# EAGLE library part XR-2943Q (library exar)
Fax/Data MICROCONTROLLER
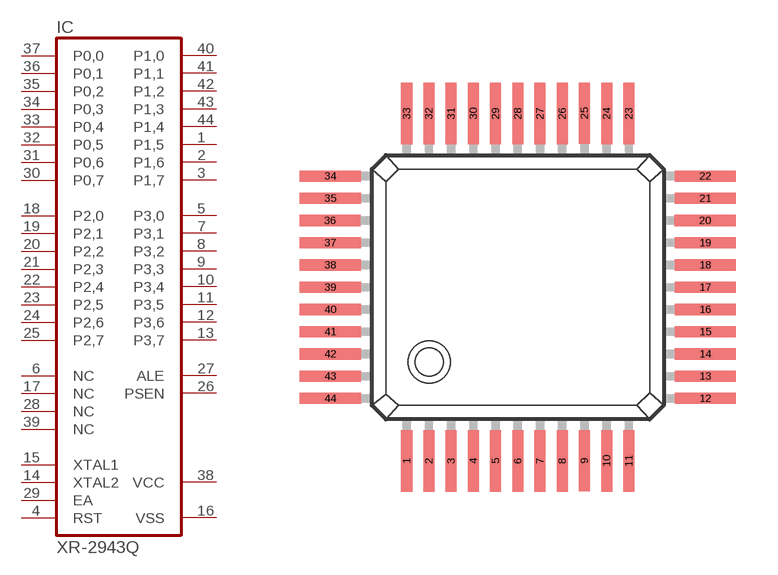
[diagram p87: symbol with the pads of QFP-44; footprint QFP-44]

Designator prefix IC

## XR-2943Q (OC_FARNELL: unknown; OC_NEWARK: unknown)  [QFP-44]
1  P1,5
2  P1,6
3  P1,7
4  RST  in
5  P3,0
6  NC  nc
7  P3,1
8  P3,2
9  P3,3
10  P3,4
11  P3,5
12  P3,6
13  P3,7
14  XTAL2  in
15  XTAL1  in
16  VSS  pwr
17  NC  nc
18  P2,0
19  P2,1
20  P2,2
21  P2,3
22  P2,4
23  P2,5
24  P2,6
25  P2,7
26  PSEN  out
27  ALE  out
28  NC  nc
29  EA  in
30  P0,7
31  P0,6
32  P0,5
33  P0,4
34  P0,3
35  P0,2
36  P0,1
37  P0,0
38  VCC  pwr
39  NC  nc
40  P1,0
41  P1,1
42  P1,2
43  P1,3
44  P1,4

## Footprint QFP-44 (pad centres in mm)
Quad Flat Package
smd 0.4 x 2.2: 1 -4,-6.25; 2 -3.2,-6.25; 3 -2.4,-6.25; 4 -1.6,-6.25; 5 -0.8,-6.25; 6 0,-6.25; 7 0.8,-6.25; 8 1.6,-6.25; 9 2.4,-6.24; 10 3.2,-6.25; 11 4,-6.25; 23 4,6.25; 24 3.2,6.25; 25 2.4,6.26; 26 1.6,6.25; 27 0.8,6.25; 28 0,6.25; 29 -0.8,6.25; 30 -1.6,6.25; 31 -2.4,6.25; 32 -3.2,6.25; 33 -4,6.25
smd 2.2 x 0.4: 12 6.75,-4; 13 6.75,-3.2; 14 6.75,-2.4; 15 6.75,-1.6; 16 6.75,-0.8; 17 6.75,0; 18 6.75,0.8; 19 6.75,1.6; 20 6.74,2.4; 21 6.75,3.2; 22 6.75,4; 34 -6.75,4; 35 -6.75,3.2; 36 -6.76,2.4; 37 -6.75,1.6; 38 -6.75,0.8; 39 -6.75,0; 40 -6.75,-0.8; 41 -6.75,-1.6; 42 -6.75,-2.4; 43 -6.75,-3.2; 44 -6.75,-4